# EAGLE library part DRV (library DRV8323)
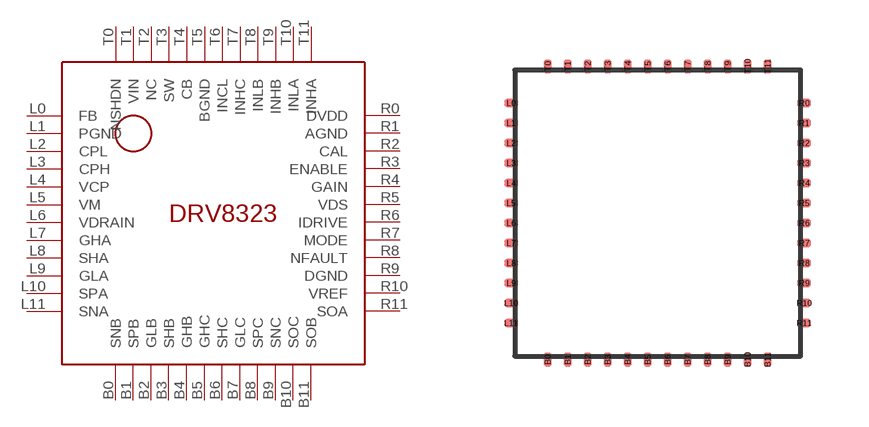
[diagram p0: symbol with the pads of DRV8323; footprint DRV8323]

Designator prefix -

## DRVSMD_QFN  [DRV8323]
B0  SNB
B1  SPB
B2  GLB
B3  SHB
B4  GHB
B5  GHC
B6  SHC
B7  GLC
B8  SPC
B9  SNC
B10  SOC
B11  SOB
L0  FB
L1  PGND
L2  CPL
L3  CPH
L4  VCP
L5  VM
L6  VDRAIN
L7  GHA
L8  SHA
L9  GLA
L10  SPA
L11  SNA
R0  DVDD
R1  AGND
R2  CAL
R3  ENABLE
R4  GAIN
R5  VDS
R6  IDRIVE
R7  MODE
R8  NFAULT
R9  DGND
R10  VREF
R11  SOA
T0  NSHDN
T1  VIN
T2  NC
T3  SW
T4  CB
T5  BGND
T6  INCL
T7  INHC
T8  INLB
T9  INHB
T10  INLA
T11  INHA

## Footprint DRV8323 (pad centres in mm)
smd 0.207 x 0.345: B0 -2.985,-3.9; B1 -2.485,-3.9; B2 -1.985,-3.9; B3 -1.485,-3.9; B4 -0.985,-3.9; B5 -0.485,-3.9; B6 0.015,-3.9; B7 0.515,-3.9; B8 1.015,-3.9; B9 1.515,-3.9; B10 2.015,-3.9; B11 2.515,-3.9; T0 -2.985,3.43; T1 -2.485,3.43; T2 -1.985,3.43; T3 -1.485,3.43; T4 -0.985,3.43; T5 -0.485,3.43; T6 0.015,3.43; T7 0.515,3.43; T8 1.015,3.43; T9 1.515,3.43; T10 2.015,3.43; T11 2.515,3.43
smd 0.345 x 0.207: L0 -3.9,2.515; L1 -3.9,2.015; L2 -3.9,1.515; L3 -3.9,1.015; L4 -3.9,0.515; L5 -3.9,0.015; L6 -3.9,-0.485; L7 -3.9,-0.985; L8 -3.9,-1.485; L9 -3.9,-1.985; L10 -3.9,-2.485; L11 -3.9,-2.985; R0 3.43,2.515; R1 3.43,2.015; R2 3.43,1.515; R3 3.43,1.015; R4 3.43,0.515; R5 3.43,0.015; R6 3.43,-0.485; R7 3.43,-0.985; R8 3.43,-1.485; R9 3.43,-1.985; R10 3.43,-2.485; R11 3.43,-2.985